# Altium footprint library Diod.PcbLib: 392 footprints (part 6 of 25)
Each footprint in its own frame and in the unit in brackets; x right, y up, seen from the top. Pads: shape width x height; smd on the part's side, far side on the other; paste and mask are expansions set on the pad; w line width, h text height; cw(c..) or ccw(c..) is an arc to the next point about the centre after c.
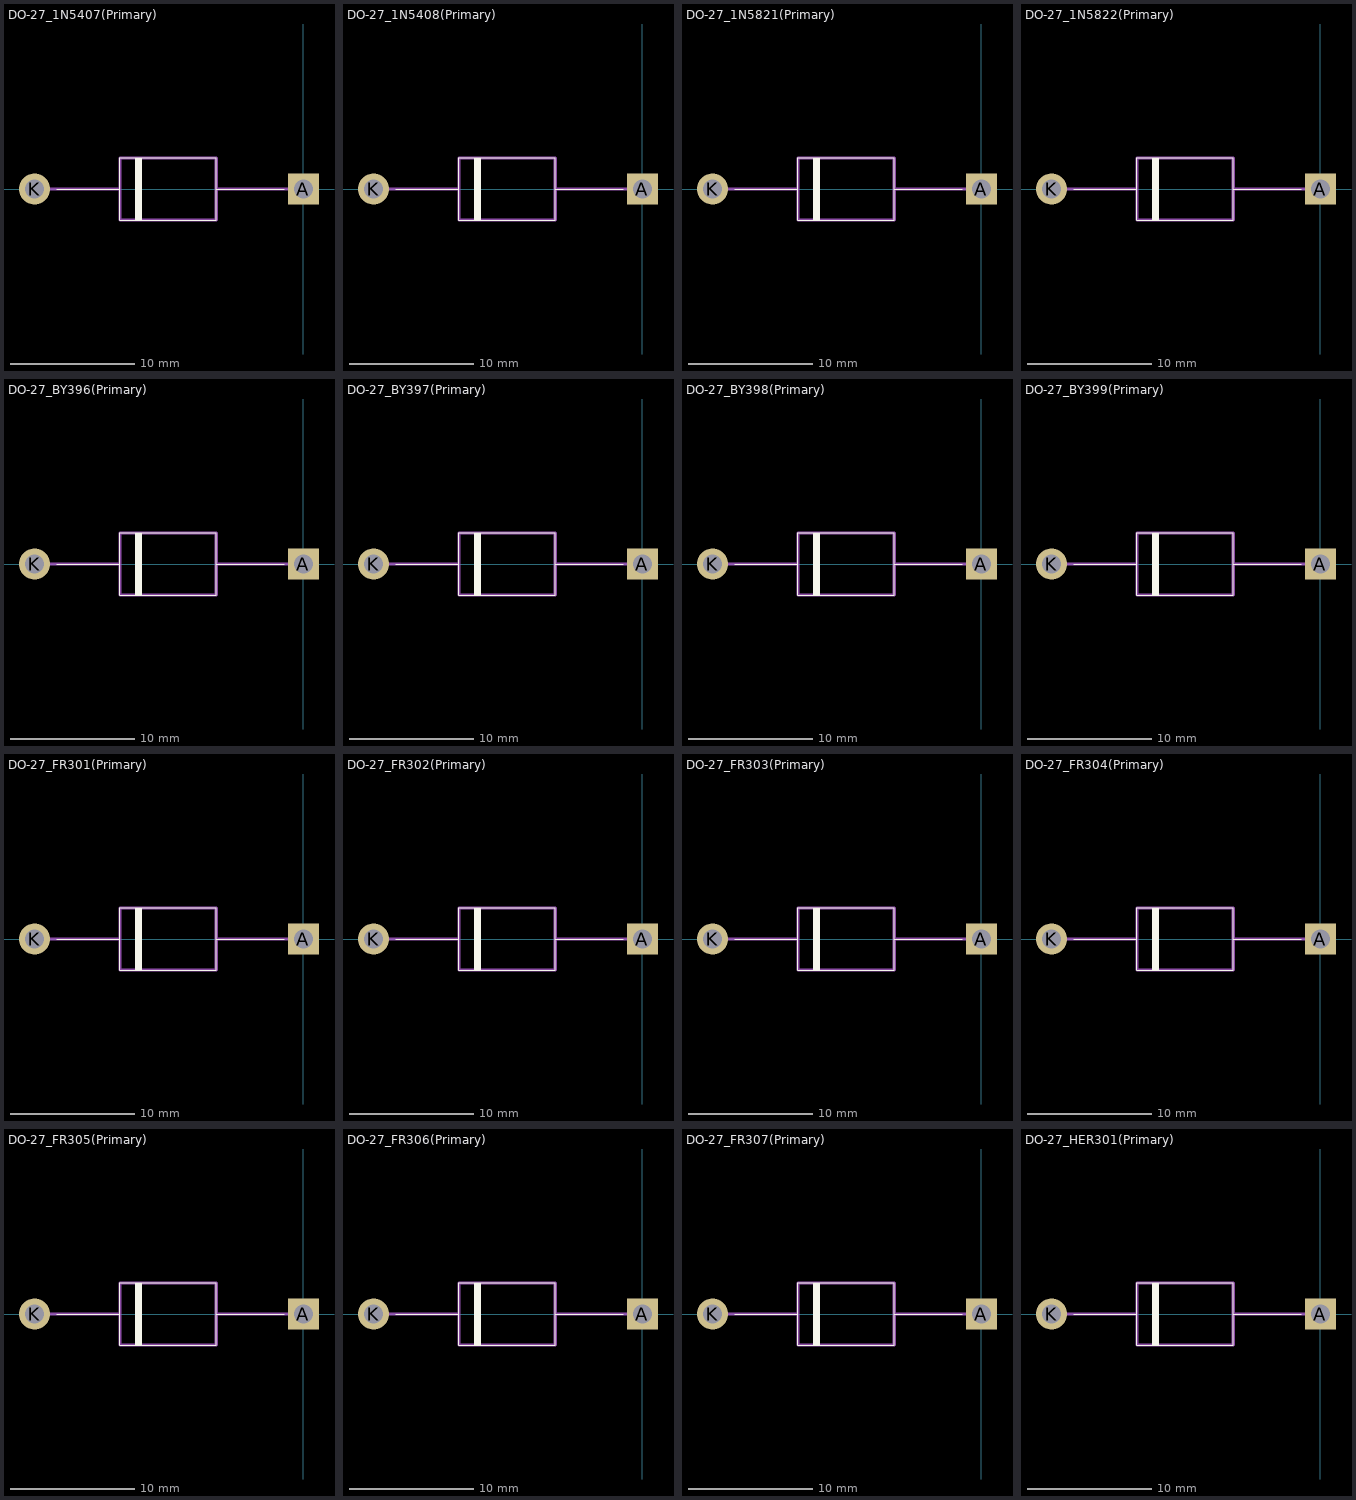
[diagram p5: the footprints below, top view; thin cyan lines are the x and y axes]

## DO-27_1N5407(Primary) [mm]
pads (2):
  rect 2.5x2.5 hole 1.5: A(0,0)
  round 2.5 hole 1.5: K(-21.6,0)
Top Overlay:
  region: -13.5,2.5 -13.5,-2.5 -13,-2.5 -13,2.5
  lines w0.1: -19.812,0 -14.75,0 ; -7,0 -1.524,0 ; -14.75,0 -14.75,2.5 -7,2.5 -7,-2.5 -14.75,-2.5 -14.75,0
Mechanical 1:
  region: -13.5,2.5 -13.5,-2.5 -13,-2.5 -13,2.5
  lines w0.25: -21.6,0 -14.75,0 ; -7,0 0,0 ; -14.75,0 -14.75,2.5 -7,2.5 -7,-2.5 -14.75,-2.5 -14.75,0

## DO-27_1N5408(Primary) [mm]
pads (2):
  rect 2.5x2.5 hole 1.5: A(0,0)
  round 2.5 hole 1.5: K(-21.6,0)
Top Overlay:
  region: -13.5,2.5 -13.5,-2.5 -13,-2.5 -13,2.5
  lines w0.1: -19.812,0 -14.75,0 ; -7,0 -1.524,0 ; -14.75,0 -14.75,2.5 -7,2.5 -7,-2.5 -14.75,-2.5 -14.75,0
Mechanical 1:
  region: -13.5,2.5 -13.5,-2.5 -13,-2.5 -13,2.5
  lines w0.25: -21.6,0 -14.75,0 ; -7,0 0,0 ; -14.75,0 -14.75,2.5 -7,2.5 -7,-2.5 -14.75,-2.5 -14.75,0

## DO-27_1N5821(Primary) [mm]
pads (2):
  rect 2.5x2.5 hole 1.5: A(0,0)
  round 2.5 hole 1.5: K(-21.6,0)
Top Overlay:
  region: -13.5,2.5 -13.5,-2.5 -13,-2.5 -13,2.5
  lines w0.1: -19.812,0 -14.75,0 ; -7,0 -1.524,0 ; -14.75,0 -14.75,2.5 -7,2.5 -7,-2.5 -14.75,-2.5 -14.75,0
Mechanical 1:
  region: -13.5,2.5 -13.5,-2.5 -13,-2.5 -13,2.5
  lines w0.25: -21.6,0 -14.75,0 ; -7,0 0,0 ; -14.75,0 -14.75,2.5 -7,2.5 -7,-2.5 -14.75,-2.5 -14.75,0

## DO-27_1N5822(Primary) [mm]
pads (2):
  rect 2.5x2.5 hole 1.5: A(0,0)
  round 2.5 hole 1.5: K(-21.6,0)
Top Overlay:
  region: -13.5,2.5 -13.5,-2.5 -13,-2.5 -13,2.5
  lines w0.1: -19.812,0 -14.75,0 ; -7,0 -1.524,0 ; -14.75,0 -14.75,2.5 -7,2.5 -7,-2.5 -14.75,-2.5 -14.75,0
Mechanical 1:
  region: -13.5,2.5 -13.5,-2.5 -13,-2.5 -13,2.5
  lines w0.25: -21.6,0 -14.75,0 ; -7,0 0,0 ; -14.75,0 -14.75,2.5 -7,2.5 -7,-2.5 -14.75,-2.5 -14.75,0

## DO-27_BY396(Primary) [mm]
pads (2):
  rect 2.5x2.5 hole 1.5: A(0,0)
  round 2.5 hole 1.5: K(-21.6,0)
Top Overlay:
  region: -13.5,2.5 -13.5,-2.5 -13,-2.5 -13,2.5
  lines w0.1: -19.812,0 -14.75,0 ; -7,0 -1.524,0 ; -14.75,0 -14.75,2.5 -7,2.5 -7,-2.5 -14.75,-2.5 -14.75,0
Mechanical 1:
  region: -13.5,2.5 -13.5,-2.5 -13,-2.5 -13,2.5
  lines w0.25: -21.6,0 -14.75,0 ; -7,0 0,0 ; -14.75,0 -14.75,2.5 -7,2.5 -7,-2.5 -14.75,-2.5 -14.75,0

## DO-27_BY397(Primary) [mm]
pads (2):
  rect 2.5x2.5 hole 1.5: A(0,0)
  round 2.5 hole 1.5: K(-21.6,0)
Top Overlay:
  region: -13.5,2.5 -13.5,-2.5 -13,-2.5 -13,2.5
  lines w0.1: -19.812,0 -14.75,0 ; -7,0 -1.524,0 ; -14.75,0 -14.75,2.5 -7,2.5 -7,-2.5 -14.75,-2.5 -14.75,0
Mechanical 1:
  region: -13.5,2.5 -13.5,-2.5 -13,-2.5 -13,2.5
  lines w0.25: -21.6,0 -14.75,0 ; -7,0 0,0 ; -14.75,0 -14.75,2.5 -7,2.5 -7,-2.5 -14.75,-2.5 -14.75,0

## DO-27_BY398(Primary) [mm]
pads (2):
  rect 2.5x2.5 hole 1.5: A(0,0)
  round 2.5 hole 1.5: K(-21.6,0)
Top Overlay:
  region: -13.5,2.5 -13.5,-2.5 -13,-2.5 -13,2.5
  lines w0.1: -19.812,0 -14.75,0 ; -7,0 -1.524,0 ; -14.75,0 -14.75,2.5 -7,2.5 -7,-2.5 -14.75,-2.5 -14.75,0
Mechanical 1:
  region: -13.5,2.5 -13.5,-2.5 -13,-2.5 -13,2.5
  lines w0.25: -21.6,0 -14.75,0 ; -7,0 0,0 ; -14.75,0 -14.75,2.5 -7,2.5 -7,-2.5 -14.75,-2.5 -14.75,0

## DO-27_BY399(Primary) [mm]
pads (2):
  rect 2.5x2.5 hole 1.5: A(0,0)
  round 2.5 hole 1.5: K(-21.6,0)
Top Overlay:
  region: -13.5,2.5 -13.5,-2.5 -13,-2.5 -13,2.5
  lines w0.1: -19.812,0 -14.75,0 ; -7,0 -1.524,0 ; -14.75,0 -14.75,2.5 -7,2.5 -7,-2.5 -14.75,-2.5 -14.75,0
Mechanical 1:
  region: -13.5,2.5 -13.5,-2.5 -13,-2.5 -13,2.5
  lines w0.25: -21.6,0 -14.75,0 ; -7,0 0,0 ; -14.75,0 -14.75,2.5 -7,2.5 -7,-2.5 -14.75,-2.5 -14.75,0

## DO-27_FR301(Primary) [mm]
pads (2):
  rect 2.5x2.5 hole 1.5: A(0,0)
  round 2.5 hole 1.5: K(-21.6,0)
Top Overlay:
  region: -13.5,2.5 -13.5,-2.5 -13,-2.5 -13,2.5
  lines w0.1: -19.812,0 -14.75,0 ; -7,0 -1.524,0 ; -14.75,0 -14.75,2.5 -7,2.5 -7,-2.5 -14.75,-2.5 -14.75,0
Mechanical 1:
  region: -13.5,2.5 -13.5,-2.5 -13,-2.5 -13,2.5
  lines w0.25: -21.6,0 -14.75,0 ; -7,0 0,0 ; -14.75,0 -14.75,2.5 -7,2.5 -7,-2.5 -14.75,-2.5 -14.75,0

## DO-27_FR302(Primary) [mm]
pads (2):
  rect 2.5x2.5 hole 1.5: A(0,0)
  round 2.5 hole 1.5: K(-21.6,0)
Top Overlay:
  region: -13.5,2.5 -13.5,-2.5 -13,-2.5 -13,2.5
  lines w0.1: -19.812,0 -14.75,0 ; -7,0 -1.524,0 ; -14.75,0 -14.75,2.5 -7,2.5 -7,-2.5 -14.75,-2.5 -14.75,0
Mechanical 1:
  region: -13.5,2.5 -13.5,-2.5 -13,-2.5 -13,2.5
  lines w0.25: -21.6,0 -14.75,0 ; -7,0 0,0 ; -14.75,0 -14.75,2.5 -7,2.5 -7,-2.5 -14.75,-2.5 -14.75,0

## DO-27_FR303(Primary) [mm]
pads (2):
  rect 2.5x2.5 hole 1.5: A(0,0)
  round 2.5 hole 1.5: K(-21.6,0)
Top Overlay:
  region: -13.5,2.5 -13.5,-2.5 -13,-2.5 -13,2.5
  lines w0.1: -19.812,0 -14.75,0 ; -7,0 -1.524,0 ; -14.75,0 -14.75,2.5 -7,2.5 -7,-2.5 -14.75,-2.5 -14.75,0
Mechanical 1:
  region: -13.5,2.5 -13.5,-2.5 -13,-2.5 -13,2.5
  lines w0.25: -21.6,0 -14.75,0 ; -7,0 0,0 ; -14.75,0 -14.75,2.5 -7,2.5 -7,-2.5 -14.75,-2.5 -14.75,0

## DO-27_FR304(Primary) [mm]
pads (2):
  rect 2.5x2.5 hole 1.5: A(0,0)
  round 2.5 hole 1.5: K(-21.6,0)
Top Overlay:
  region: -13.5,2.5 -13.5,-2.5 -13,-2.5 -13,2.5
  lines w0.1: -19.812,0 -14.75,0 ; -7,0 -1.524,0 ; -14.75,0 -14.75,2.5 -7,2.5 -7,-2.5 -14.75,-2.5 -14.75,0
Mechanical 1:
  region: -13.5,2.5 -13.5,-2.5 -13,-2.5 -13,2.5
  lines w0.25: -21.6,0 -14.75,0 ; -7,0 0,0 ; -14.75,0 -14.75,2.5 -7,2.5 -7,-2.5 -14.75,-2.5 -14.75,0

## DO-27_FR305(Primary) [mm]
pads (2):
  rect 2.5x2.5 hole 1.5: A(0,0)
  round 2.5 hole 1.5: K(-21.6,0)
Top Overlay:
  region: -13.5,2.5 -13.5,-2.5 -13,-2.5 -13,2.5
  lines w0.1: -19.812,0 -14.75,0 ; -7,0 -1.524,0 ; -14.75,0 -14.75,2.5 -7,2.5 -7,-2.5 -14.75,-2.5 -14.75,0
Mechanical 1:
  region: -13.5,2.5 -13.5,-2.5 -13,-2.5 -13,2.5
  lines w0.25: -21.6,0 -14.75,0 ; -7,0 0,0 ; -14.75,0 -14.75,2.5 -7,2.5 -7,-2.5 -14.75,-2.5 -14.75,0

## DO-27_FR306(Primary) [mm]
pads (2):
  rect 2.5x2.5 hole 1.5: A(0,0)
  round 2.5 hole 1.5: K(-21.6,0)
Top Overlay:
  region: -13.5,2.5 -13.5,-2.5 -13,-2.5 -13,2.5
  lines w0.1: -19.812,0 -14.75,0 ; -7,0 -1.524,0 ; -14.75,0 -14.75,2.5 -7,2.5 -7,-2.5 -14.75,-2.5 -14.75,0
Mechanical 1:
  region: -13.5,2.5 -13.5,-2.5 -13,-2.5 -13,2.5
  lines w0.25: -21.6,0 -14.75,0 ; -7,0 0,0 ; -14.75,0 -14.75,2.5 -7,2.5 -7,-2.5 -14.75,-2.5 -14.75,0

## DO-27_FR307(Primary) [mm]
pads (2):
  rect 2.5x2.5 hole 1.5: A(0,0)
  round 2.5 hole 1.5: K(-21.6,0)
Top Overlay:
  region: -13.5,2.5 -13.5,-2.5 -13,-2.5 -13,2.5
  lines w0.1: -19.812,0 -14.75,0 ; -7,0 -1.524,0 ; -14.75,0 -14.75,2.5 -7,2.5 -7,-2.5 -14.75,-2.5 -14.75,0
Mechanical 1:
  region: -13.5,2.5 -13.5,-2.5 -13,-2.5 -13,2.5
  lines w0.25: -21.6,0 -14.75,0 ; -7,0 0,0 ; -14.75,0 -14.75,2.5 -7,2.5 -7,-2.5 -14.75,-2.5 -14.75,0

## DO-27_HER301(Primary) [mm]
pads (2):
  rect 2.5x2.5 hole 1.5: A(0,0)
  round 2.5 hole 1.5: K(-21.6,0)
Top Overlay:
  region: -13.5,2.5 -13.5,-2.5 -13,-2.5 -13,2.5
  lines w0.1: -19.812,0 -14.75,0 ; -7,0 -1.524,0 ; -14.75,0 -14.75,2.5 -7,2.5 -7,-2.5 -14.75,-2.5 -14.75,0
Mechanical 1:
  region: -13.5,2.5 -13.5,-2.5 -13,-2.5 -13,2.5
  lines w0.25: -21.6,0 -14.75,0 ; -7,0 0,0 ; -14.75,0 -14.75,2.5 -7,2.5 -7,-2.5 -14.75,-2.5 -14.75,0